# Altium schematic symbol library Linkit_One_Schematics.SchLib: 1 symbol
Pins are listed as number, name and electrical type; pins without a type are passive.

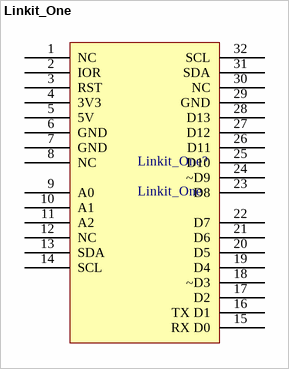
[diagram p0: symbol Linkit_One]

## Linkit_One
designator Linkit_One?
footprint Linkit_One
pins: 1 NC, 2 IOR, 3 RST, 4 3V3, 5 5V, 6 GND, 7 GND, 8 NC, 9 A0, 10 A1, 11 A2, 12 NC, 13 SDA, 14 SCL, 15 RX D0, 16 TX D1, 17 D2, 18 ~D3, 19 D4, 20 D5, 21 D6, 22 D7, 23 D8, 24 ~D9, 25 D10, 26 D11, 27 D12, 28 D13, 29 GND, 30 NC, 31 SDA, 32 SCL